# Altium schematic symbol library 分布式传感器.SCHLIB: 10 symbols
Pins are listed as number, name and electrical type; pins without a type are passive.

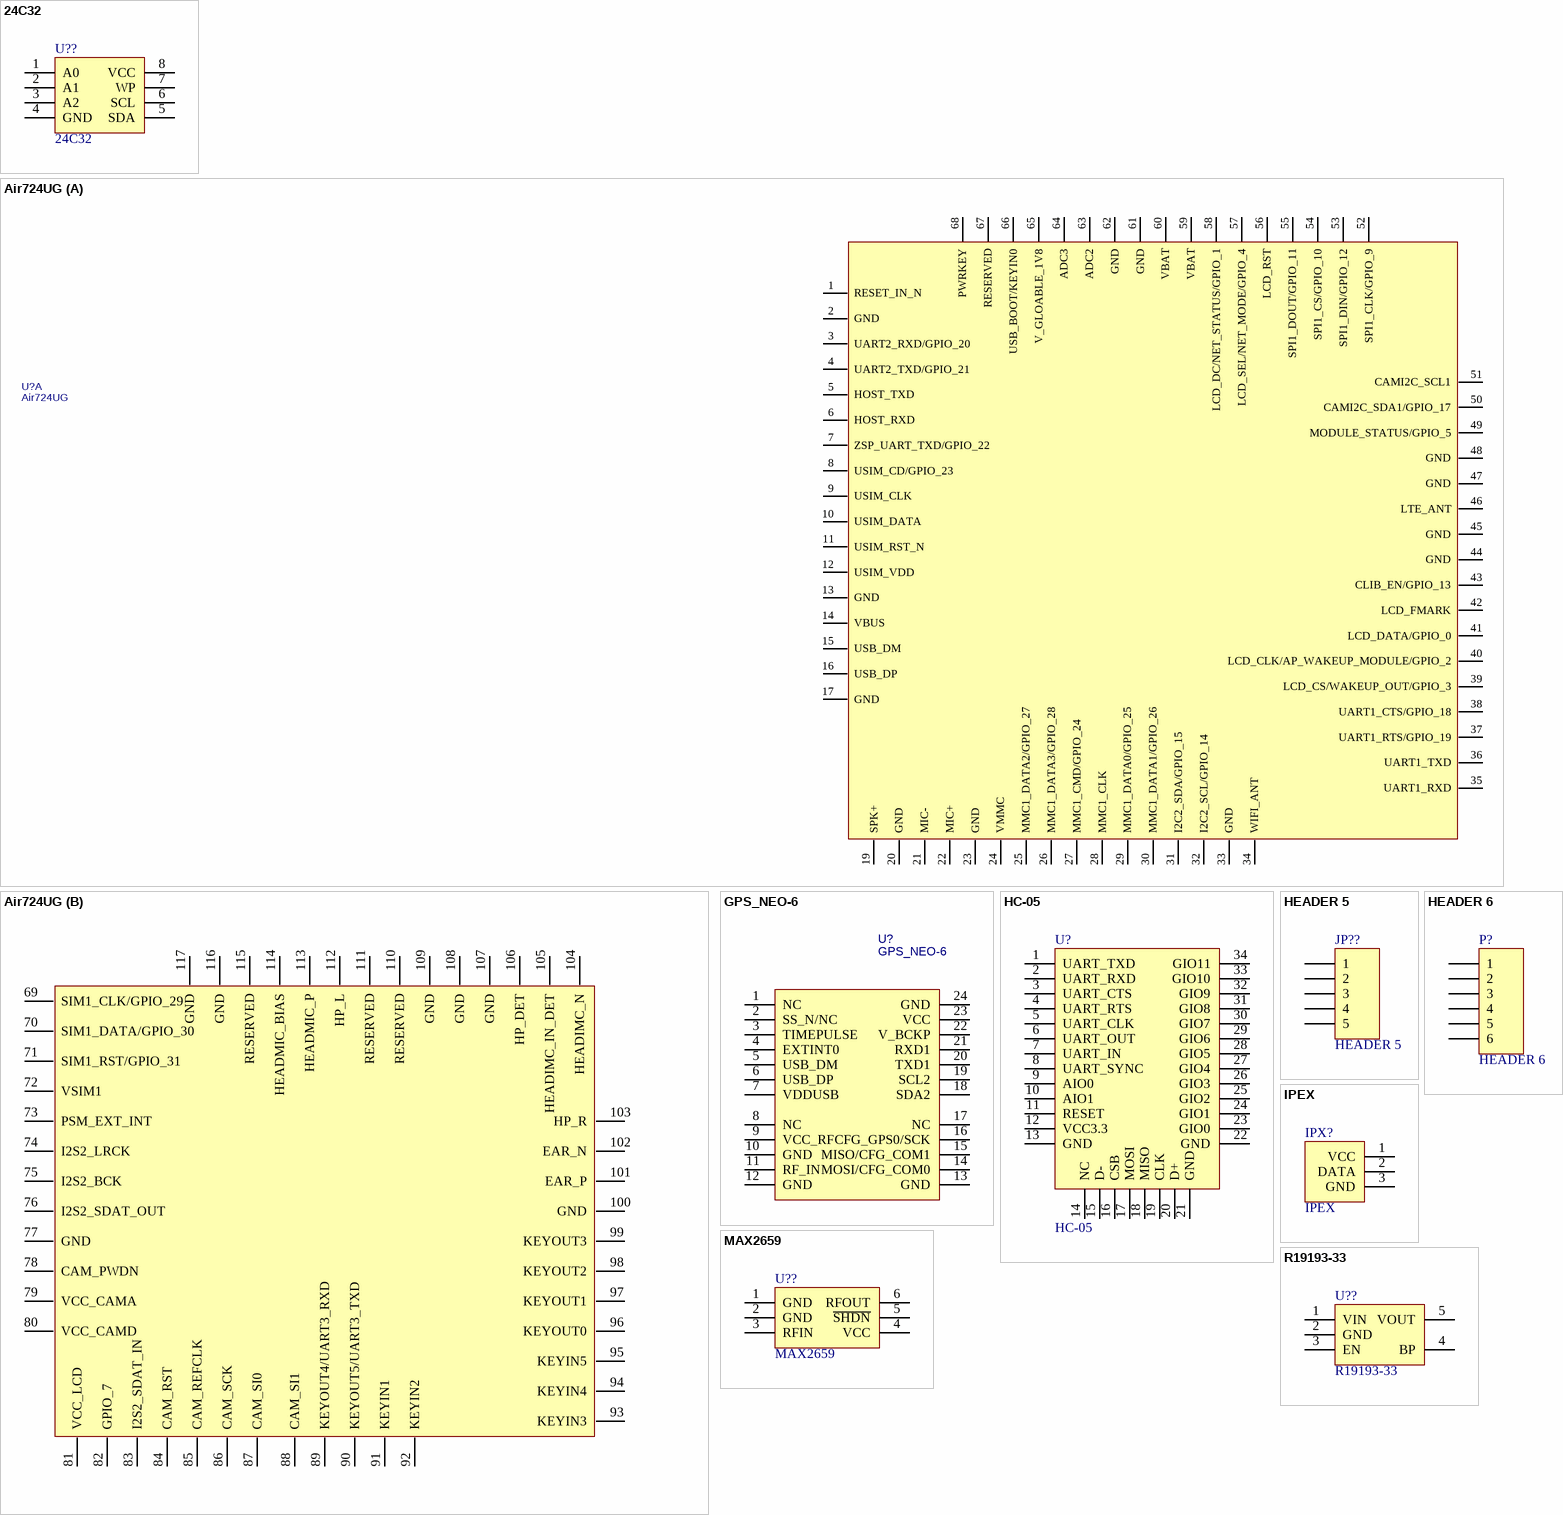
[diagram p0: symbols 24C32 to R19193-33]

## 24C32
designator U??
footprint DIP8
pins: 1 A0, 2 A1, 3 A2, 4 GND, 5 SDA, 6 SCL, 7 WP, 8 VCC

## Air724UG
designator U?
subpart_no: 1; Contributor: willa_111; spicePre: U; spiceSymbolName: Air724UG
footprint AIR724UG.1
part A pins: 1 RESET_IN_N, 2 GND, 3 UART2_RXD/GPIO_20, 4 UART2_TXD/GPIO_21, 5 HOST_TXD, 6 HOST_RXD, 7 ZSP_UART_TXD/GPIO_22, 8 USIM_CD/GPIO_23, 9 USIM_CLK, 10 USIM_DATA, 11 USIM_RST_N, 12 USIM_VDD, 13 GND, 14 VBUS, 15 USB_DM, 16 USB_DP, 17 GND, 19 SPK+, 20 GND, 21 MIC-, 22 MIC+, 23 GND, 24 VMMC, 25 MMC1_DATA2/GPIO_27, 26 MMC1_DATA3/GPIO_28, 27 MMC1_CMD/GPIO_24, 28 MMC1_CLK, 29 MMC1_DATA0/GPIO_25, 30 MMC1_DATA1/GPIO_26, 31 I2C2_SDA/GPIO_15, 32 I2C2_SCL/GPIO_14, 33 GND, 34 WIFI_ANT, 35 UART1_RXD, 36 UART1_TXD, 37 UART1_RTS/GPIO_19, 38 UART1_CTS/GPIO_18, 39 LCD_CS/WAKEUP_OUT/GPIO_3, 40 LCD_CLK/AP_WAKEUP_MODULE/GPIO_2, 41 LCD_DATA/GPIO_0, 42 LCD_FMARK, 43 CLIB_EN/GPIO_13, 44 GND, 45 GND, 46 LTE_ANT, 47 GND, 48 GND, 49 MODULE_STATUS/GPIO_5, 50 CAMI2C_SDA1/GPIO_17, 51 CAMI2C_SCL1, 52 SPI1_CLK/GPIO_9, 53 SPI1_DIN/GPIO_12, 54 SPI1_CS/GPIO_10, 55 SPI1_DOUT/GPIO_11, 56 LCD_RST, 57 LCD_SEL/NET_MODE/GPIO_4, 58 LCD_DC/NET_STATUS/GPIO_1, 59 VBAT, 60 VBAT, 61 GND, 62 GND, 63 ADC2, 64 ADC3, 65 V_GLOABLE_1V8, 66 USB_BOOT/KEYIN0, 67 RESERVED, 68 PWRKEY
part B pins: 69 SIM1_CLK/GPIO_29, 70 SIM1_DATA/GPIO_30, 71 SIM1_RST/GPIO_31, 72 VSIM1, 73 PSM_EXT_INT, 74 I2S2_LRCK, 75 I2S2_BCK, 76 I2S2_SDAT_OUT, 77 GND, 78 CAM_PWDN, 79 VCC_CAMA, 80 VCC_CAMD, 81 VCC_LCD, 82 GPIO_7, 83 I2S2_SDAT_IN, 84 CAM_RST, 85 CAM_REFCLK, 86 CAM_SCK, 87 CAM_SI0, 88 CAM_SI1, 89 KEYOUT4/UART3_RXD, 90 KEYOUT5/UART3_TXD, 91 KEYIN1, 92 KEYIN2, 93 KEYIN3, 94 KEYIN4, 95 KEYIN5, 96 KEYOUT0, 97 KEYOUT1, 98 KEYOUT2, 99 KEYOUT3, 100 GND, 101 EAR_P, 102 EAR_N, 103 HP_R, 104 HEADIMC_N, 105 HEADIMC_IN_DET, 106 HP_DET, 107 GND, 108 GND, 109 GND, 110 RESERVED, 111 RESERVED, 112 HP_L, 113 HEADMIC_P, 114 HEADMIC_BIAS, 115 RESERVED, 116 GND, 117 GND

## GPS_NEO-6
designator U?
Contributor: dyf666; spicePre: U; spiceSymbolName: GPS_NEO-6
footprint GPS_NEO-6
pins: 1 NC, 2 SS_N/NC, 3 TIMEPULSE, 4 EXTINT0, 5 USB_DM, 6 USB_DP, 7 VDDUSB, 8 NC, 9 VCC_RF, 10 GND, 11 RF_IN, 12 GND, 13 GND, 14 MOSI/CFG_COM0, 15 MISO/CFG_COM1, 16 CFG_GPS0/SCK, 17 NC, 18 SDA2, 19 SCL2, 20 TXD1, 21 RXD1, 22 V_BCKP, 23 VCC, 24 GND

## HC-05
designator U?
蓝牙模块
pins: 1 UART_TXD (power), 2 UART_RXD (power), 3 UART_CTS (power), 4 UART_RTS (power), 5 UART_CLK (power), 6 UART_OUT (power), 7 UART_IN (power), 8 UART_SYNC (power), 9 AIO0 (power), 10 AIO1 (power), 11 RESET (power), 12 VCC3.3 (power), 13 GND (power), 14 NC (power), 15 D- (power), 16 CSB (power), 17 MOSI (power), 18 MISO (power), 19 CLK (power), 20 D+ (power), 21 GND (power), 22 GND (power), 23 GIO0 (power), 24 GIO1 (power), 25 GIO2 (power), 26 GIO3 (power), 27 GIO4 (power), 28 GIO5 (power), 29 GIO6 (power), 30 GIO7 (power), 31 GIO8 (power), 32 GIO9 (power), 33 GIO10 (power), 34 GIO11 (power)

## HEADER 5
designator JP??
footprint SIP5
pins: 1, 2, 3, 4, 5

## HEADER 6
designator P?
footprint SIP6
pins: 1, 2, 3, 4, 5, 6

## IPEX
designator IPX?
footprint SIP3
pins: 1 VCC, 2 DATA, 3 GND

## MAX2659
designator U??
pins: 1 GND, 2 GND, 3 RFIN, 4 VCC, 5 ~{SHDN}, 6 RFOUT

## R19193-33
designator U??
pins: 1 VIN, 2 GND, 3 EN, 4 BP, 5 VOUT

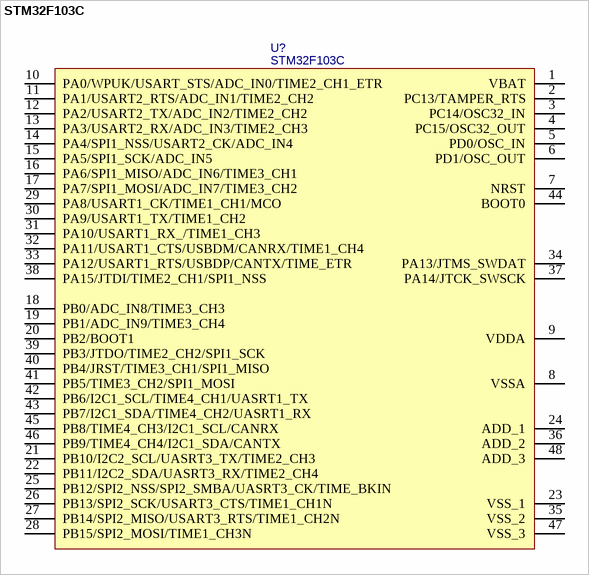
[diagram p1: symbol STM32F103C]

## STM32F103C
designator U?
Contributor: meidong0000; spicePre: U; spiceSymbolName: STM32F103C8T6
footprint LQFP48(STM32F103X8/STM32F103XB)
pins: 1 VBAT, 2 PC13/TAMPER_RTS, 3 PC14/OSC32_IN, 4 PC15/OSC32_OUT, 5 PD0/OSC_IN, 6 PD1/OSC_OUT, 7 NRST, 8 VSSA, 9 VDDA, 10 PA0/WPUK/USART_STS/ADC_IN0/TIME2_CH1_ETR, 11 PA1/USART2_RTS/ADC_IN1/TIME2_CH2, 12 PA2/USART2_TX/ADC_IN2/TIME2_CH2, 13 PA3/USART2_RX/ADC_IN3/TIME2_CH3, 14 PA4/SPI1_NSS/USART2_CK/ADC_IN4, 15 PA5/SPI1_SCK/ADC_IN5, 16 PA6/SPI1_MISO/ADC_IN6/TIME3_CH1, 17 PA7/SPI1_MOSI/ADC_IN7/TIME3_CH2, 18 PB0/ADC_IN8/TIME3_CH3, 19 PB1/ADC_IN9/TIME3_CH4, 20 PB2/BOOT1, 21 PB10/I2C2_SCL/UASRT3_TX/TIME2_CH3, 22 PB11/I2C2_SDA/UASRT3_RX/TIME2_CH4, 23 VSS_1, 24 ADD_1, 25 PB12/SPI2_NSS/SPI2_SMBA/UASRT3_CK/TIME_BKIN, 26 PB13/SPI2_SCK/USART3_CTS/TIME1_CH1N, 27 PB14/SPI2_MISO/USART3_RTS/TIME1_CH2N, 28 PB15/SPI2_MOSI/TIME1_CH3N, 29 PA8/USART1_CK/TIME1_CH1/MCO, 30 PA9/USART1_TX/TIME1_CH2, 31 PA10/USART1_RX_/TIME1_CH3, 32 PA11/USART1_CTS/USBDM/CANRX/TIME1_CH4, 33 PA12/USART1_RTS/USBDP/CANTX/TIME_ETR, 34 PA13/JTMS_SWDAT, 35 VSS_2, 36 ADD_2, 37 PA14/JTCK_SWSCK, 38 PA15/JTDI/TIME2_CH1/SPI1_NSS, 39 PB3/JTDO/TIME2_CH2/SPI1_SCK, 40 PB4/JRST/TIME3_CH1/SPI1_MISO, 41 PB5/TIME3_CH2/SPI1_MOSI, 42 PB6/I2C1_SCL/TIME4_CH1/UASRT1_TX, 43 PB7/I2C1_SDA/TIME4_CH2/UASRT1_RX, 44 BOOT0, 45 PB8/TIME4_CH3/I2C1_SCL/CANRX, 46 PB9/TIME4_CH4/I2C1_SDA/CANTX, 47 VSS_3, 48 ADD_3